# Altium schematic symbol library Hardware.SchLib: 26 symbols
Pins are listed as number, name and electrical type; pins without a type are passive.

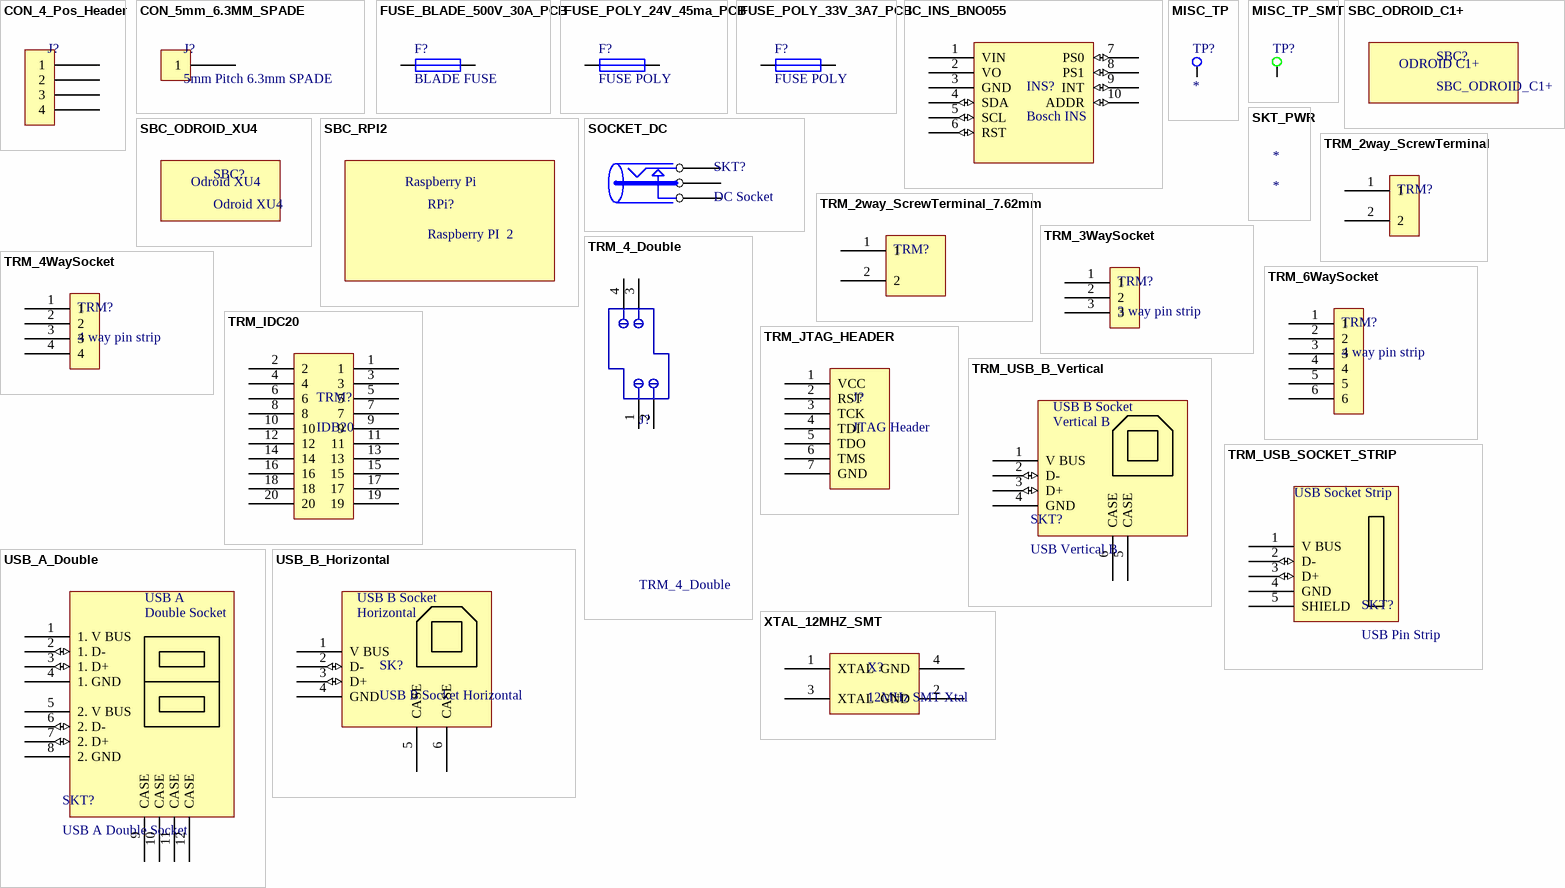
[diagram p0: symbols CON_4_Pos_Header to XTAL_12MHZ_SMT]

## CON_4_Pos_Header
designator J?, comment 4 Positions Header, Shrouded Connector 0.049" (1.25mm) Through Hole Tin  (value not drawn)
CON_4_Pos_Header; Manufacturer: Hirose Electric Co Ltd; Manufacturer P/N: DF13-4P-1.25DSA
footprint DF13-4P-1.25DSA
pins: 1 (power), 2 (power), 3 (power), 4 (power)

## CON_5mm_6.3MM_SPADE
designator J?, comment 5mm Pitch 6.3mm SPADE
CON_5mm_6.3MM_SPADE; Manufacturer: Dinkle; Manufacturer P/N: P-850
footprint CON_5mm_6.3MM_SPADE (Footprint not found)
pins: 1 (power)

## FUSE_BLADE_500V_30A_PCB
designator F?, comment BLADE FUSE
FUSE CLIP BLADE 500V 30A PCB; Manufacturer: Keystone Electronics; Manufacturer P/N: 3522-2
footprint FUSEHOLDER_BLADE (Footprint not found)
pins: 1, 2

## FUSE_POLY_24V_45ma_PCB
designator F?, comment FUSE POLY
FUSE PTC 24V 21mA PCB; Manufacturer: Murata Electronics North America; Manufacturer P/N: PRG18BB101MB1RB
footprint 0603
pins: 1, 2

## FUSE_POLY_33V_3A7_PCB
designator F?, comment FUSE POLY
FUSE PTC 33V 2A PCB; Manufacturer: Littelfuse Inc; Manufacturer P/N: 2920L185DR
footprint 2920
pins: 1, 2

## IC_INS_BNO055
designator INS?, comment Bosch INS
footprint IC_INC_BNO055
pins: 1 VIN (power), 2 VO (power), 3 GND (power), 4 SDA (io), 5 SCL (io), 6 RST (io), 7 PS0 (io), 8 PS1 (io), 9 INT (io), 10 ADDR (io)

## MISC_TP
designator TP?
Probe compatible test point; Manufacturer: N/A; Manufacturer P/N: N/A
footprint Test_Point
pins: 1

## MISC_TP_SMT
designator TP?, comment Test Point  (value not drawn)
Probe compatible test point; Manufacturer: N/A; Manufacturer P/N: N/A
footprint TP_SMT
pins: 1

## SBC_ODROID_C1+
designator SBC?
footprint SBC_ODROID_C1+
text: ODROID C1+

## SBC_ODROID_XU4
designator SBC?, comment Odroid XU4
footprint ODROID_XU4

## SBC_RPI2
designator RPi?, comment Raspberry PI  2
Raspberry Pi 2
footprint RaspberryPi2
text: Raspberry Pi

## SKT_PWR
designator *

## SOCKET_DC
designator SKT?, comment DC Socket
Manufacturer: N/A; Manufacturer P/N: N/A
footprint SKT_PWR
pins: COM, PIN, SW

## TRM_2way_ScrewTerminal
designator TRM?, comment Wurth 2way screw terminal  (value not drawn)
TERM BLOCK 2POS HORIZ 5.08MM T/H; Manufacturer: Wurth Electronics Inc; Manufacturer P/N: 691216510002
footprint TERM_2POS_HORIZ_5.08MM
pins: 1 (hiz), 2 (hiz)

## TRM_2way_ScrewTerminal_7.62mm
designator TRM?, comment 2way screw terminal, High current  (value not drawn)
TERM BLOCK 2POS HORIZ 7.62MM T/H; Manufacturer: Altronics; Manufacturer P/N: P4341
footprint TERM_2POS_HORIZ_7.62MM
pins: 1 (hiz), 2 (hiz)

## TRM_3WaySocket
designator TRM?, comment 3 way pin strip
Manufacturer: N/A; Manufacturer P/N: N/A
footprint SIP_3
pins: 1 (hiz), 2 (hiz), 3 (hiz)

## TRM_4_Double
designator J?
WR-TBL Terminal Blocks Serie 2301 - 3.50 mm with Rising Clamp; Manufacturer: W¨¹rth Elektronik eiSos GmbH; partNo: 691230110004; ComponentLink1 Description: Manufacturer; ComponentLink2 Description: Datasheet; NoPins: 4; Created Date: 8 Novenber 2013; ComponentLink1URL: http://www.we-online.com; ComponentLink2URL: http://katalog.we-online.de/em/datasheet/6912301100xx.pdf; Created by: Karrer Zheng
footprint 691230110004 (3,50mm - modular - 2 rows - Right - horizontal entry with rising cage clamp - 04p)
pins: 1, 2, 3, 4

## TRM_4WaySocket
designator TRM?, comment 4 way pin strip
Manufacturer: N/A; Manufacturer P/N: N/A
footprint SIP_4
pins: 1 (hiz), 2 (hiz), 3 (hiz), 4 (hiz)

## TRM_6WaySocket
designator TRM?, comment 4 way pin strip
6 Way pin strip; Manufacturer: N/A; Manufacturer P/N: N/A
footprint SIP_6
pins: 1 (hiz), 2 (hiz), 3 (hiz), 4 (hiz), 5 (hiz), 6 (hiz)

## TRM_IDC20
designator TRM?, comment IDB20
IDC BOX HEADER .100" 20POS; Manufacturer: CNC Tech; Manufacturer P/N: 3020-20-0100-00
footprint IDC20_BOXED
pins: 1 (power), 2 (power), 3 (power), 4 (power), 5 (power), 6 (power), 7 (power), 8 (power), 9 (power), 10 (power), 11 (power), 12 (power), 13 (power), 14 (power), 15 (power), 16 (power), 17 (power), 18 (power), 19 (power), 20 (power)

## TRM_JTAG_HEADER
designator J?, comment JTAG Header
Manufacturer: N/A; Manufacturer P/N: N/A
footprint SIP_7
pins: 1 VCC (power), 2 RST (hiz), 3 TCK (hiz), 4 TDI (hiz), 5 TDO (hiz), 6 TMS (hiz), 7 GND (power)

## TRM_USB_B_Vertical
designator SKT?, comment USB Vertical B
Connector Receptacle USB TypeB 4 Position Through Hole, Vertical; Manufacturer: Wurth Electronics Inc; Manufacturer P/N: 61400413321
footprint USB_B_Vertical
pins: 1 V BUS (power), 2 D- (io), 3 D+ (io), 4 GND (power), 5 CASE (power) "GND", 6 CASE (power) "GND"
text: USB B Socket; Vertical B

## TRM_USB_SOCKET_STRIP
designator SKT?, comment USB Pin Strip
Manufacturer: N/A; Manufacturer P/N: N/A
footprint USB_Socket_Strip (Footprint not found)
pins: 1 V BUS (power), 2 D- (io), 3 D+ (io), 4 GND (power), 5 SHIELD (power) "GND"
text: USB Socket Strip

## USB_A_Double
designator SKT?, comment USB A Double Socket
PartNo: P1301; Supplier: Altronics
footprint USB_A_DoubleSocket
pins: 1 1. V BUS (power), 2 1. D- (io), 3 1. D+ (io), 4 1. GND (power), 5 2. V BUS (power), 6 2. D- (io), 7 2. D+ (io), 8 2. GND (power), 9 CASE (power) "GND", 10 CASE (power) "GND", 11 CASE (power) "GND", 12 CASE (power) "GND"
text: USB A; Double Socket

## USB_B_Horizontal
designator SK?, comment USB B Socket Horizontal
Manufacturer: Wurth Electronics Inc; Manufacturer P/N: 61400416121
footprint USB_B_Horizontal
pins: 1 V BUS (power), 2 D- (io), 3 D+ (io), 4 GND (power), 5 CASE (power) "GND", 6 CASE (power) "GND"
text: USB B Socket; Horizontal

## XTAL_12MHZ_SMT
designator X?, comment 12MHz SMT Xtal
Crystal 12.0000MHz 30ppm 12pF 40 Ohm -20°C - 70°C Surface Mount 4-SMD, No Lead (DFN, LCC); Manufacturer: TXC CORPORATION; Manufacturer P/N: 7B-12.000MAAE-T
footprint XTAL_5X3.2_SMD
pins: 1 XTAL (hiz), 2 GND (hiz), 3 XTAL (hiz), 4 GND (hiz)